# EAGLE library part EURO16 (library 19_inch_synth)
Busverbindung für 16 Pin Döpfer A-100 Synthesizer
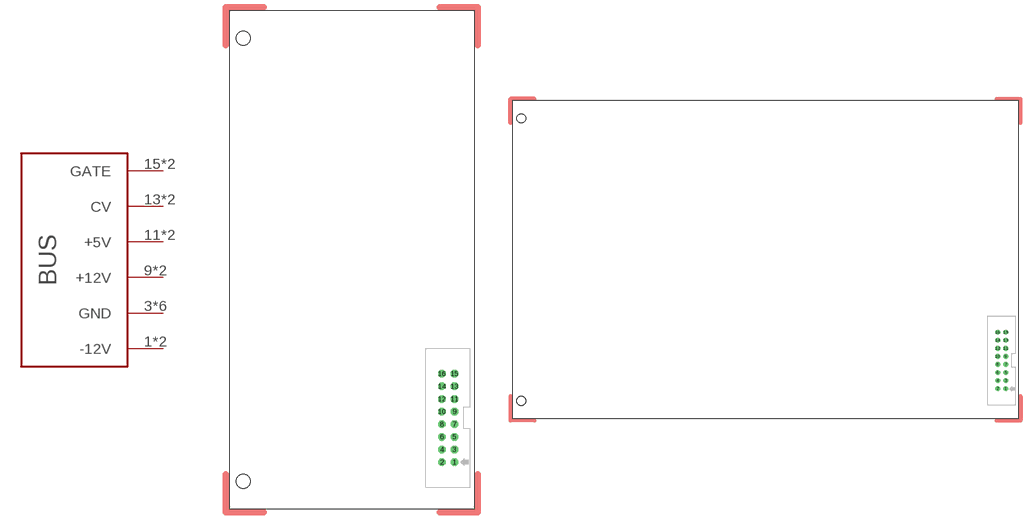
[diagram p0: symbol with the pads of EURO_50; footprints EURO_50, EURO_FULL]

Designator prefix -

## EURO16EURO50  [EURO_50]
1  -12V
2  -12V
3  GND
4  GND
5  GND
6  GND
7  GND
8  GND
9  +12V
10  +12V
11  +5V
12  +5V
13  CV
14  CV
15  GATE
16  GATE

## EURO16EURO_FULL  [EURO_FULL]
Pads as for EURO_50

## EURO16EURO_HALF  [EURO_HALF]
Pads as for EURO_50

## Footprint EURO_50 (pad centres in mm)
drill 1 octagon: 1 45.785,-40.492; 2 43.245,-40.492; 3 45.785,-37.953; 4 43.245,-37.953; 5 45.785,-35.413; 6 43.245,-35.413; 7 45.785,-32.873; 8 43.245,-32.873; 9 45.785,-30.332; 10 43.245,-30.332; 11 45.785,-27.793; 12 43.245,-27.793; 13 45.785,-25.253; 14 43.245,-25.253; 15 45.785,-22.712; 16 43.245,-22.712
hole 2.794 at 3.385,-44.303
hole 2.794 at 3.385,44.597

## Footprint EURO_FULL (pad centres in mm)
EUROCARD, 4 holes, C/AC, 2.54
drill 1 octagon: 1 156.21,-40.64; 2 153.67,-40.64; 3 156.21,-38.1; 4 153.67,-38.1; 5 156.21,-35.56; 6 153.67,-35.56; 7 156.21,-33.02; 8 153.67,-33.02; 9 156.21,-30.48; 10 153.67,-30.48; 11 156.21,-27.94; 12 153.67,-27.94; 13 156.21,-25.4; 14 153.67,-25.4; 15 156.21,-22.86; 16 153.67,-22.86
hole 2.794 at 3.81,-44.45
hole 2.794 at 3.81,44.45

## Footprint EURO_HALF (pad centres in mm)
drill 1 octagon: 1 75.785,-40.492; 2 73.245,-40.492; 3 75.785,-37.953; 4 73.245,-37.953; 5 75.785,-35.413; 6 73.245,-35.413; 7 75.785,-32.873; 8 73.245,-32.873; 9 75.785,-30.332; 10 73.245,-30.332; 11 75.785,-27.793; 12 73.245,-27.793; 13 75.785,-25.253; 14 73.245,-25.253; 15 75.785,-22.712; 16 73.245,-22.712
hole 2.794 at 3.385,-44.303
hole 2.794 at 3.385,44.597